# EAGLE library part ADAFRUITOLED (library FCC_parts)
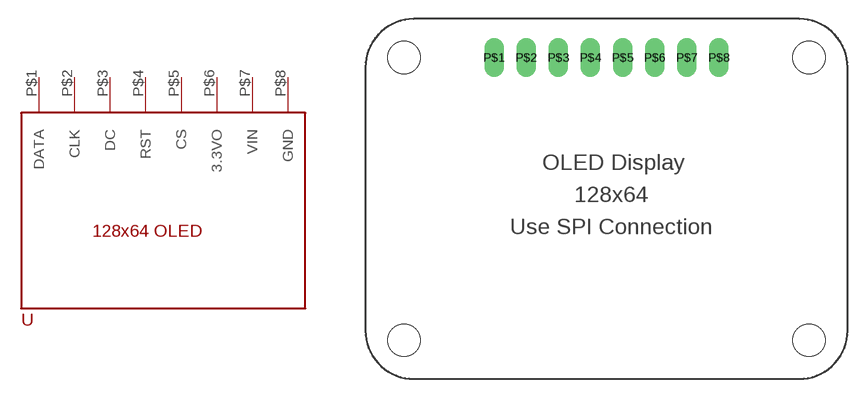
[diagram p12: symbol with the pads of 1X08OLED; footprint 1X08OLED]

Designator prefix -

## ADAFRUITOLED  [1X08OLED]
P$1  DATA
P$2  CLK
P$3  DC
P$4  RST
P$5  CS
P$6  3.3VO
P$7  VIN
P$8  GND

## Footprint 1X08OLED (pad centres in mm)
drill 1.016 long: P$1 -8.89,25.4; P$2 -6.35,25.4; P$3 -3.81,25.4; P$4 -1.27,25.4; P$5 1.27,25.4; P$6 3.81,25.4; P$7 6.35,25.4; P$8 8.89,25.4
hole 2.54 at -16.002,3.048
hole 2.54 at 16.002,3.048
hole 2.54 at 16.002,25.4
hole 2.54 at -16.002,25.4